# Altium schematic symbol library SOD-123_TVS.SchLib: 1 symbol
Pins are listed as number, name and electrical type; pins without a type are passive.

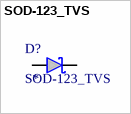
[diagram p0: symbol SOD-123_TVS]

## SOD-123_TVS
designator D?
8V 5.2V 3.3V SOD-123  TVS ROHS; LCSC: *
footprint SOD-123_TVS
pins: 1 K, 2 A